# EAGLE library part ATMEGA32U4-AU (library SamacSys_Parts)
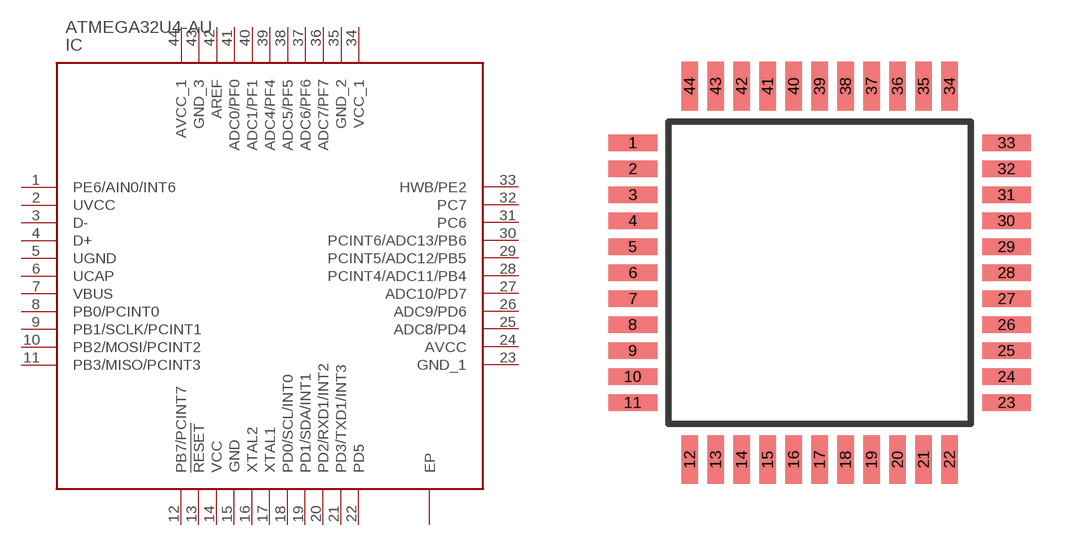
[diagram p16: symbol with the pads of TQFP-44; footprint TQFP-44]

Designator prefix IC

## ATMEGA32U4-AU  [TQFP-44]
1  PE6/AIN0/INT6
2  UVCC  pwr
3  D-
4  D+
5  UGND  pwr
6  UCAP
7  VBUS  pwr
8  PB0/PCINT0
9  PB1/SCLK/PCINT1
10  PB2/MOSI/PCINT2
11  PB3/MISO/PCINT3
12  PB7/PCINT7
13  !RESET
14  VCC  pwr
15  GND  pwr
16  XTAL2
17  XTAL1
18  PD0/SCL/INT0
19  PD1/SDA/INT1
20  PD2/RXD1/INT2
21  PD3/TXD1/INT3
22  PD5
23  GND_1  pwr
24  AVCC  pwr
25  ADC8/PD4
26  ADC9/PD6
27  ADC10/PD7
28  PCINT4/ADC11/PB4
29  PCINT5/ADC12/PB5
30  PCINT6/ADC13/PB6
31  PC6
32  PC7  in
33  HWB/PE2
34  VCC_1  pwr
35  GND_2  pwr
36  ADC7/PF7
37  ADC6/PF6
38  ADC5/PF5
39  ADC4/PF4
40  ADC1/PF1
41  ADC0/PF0
42  AREF  in
43  GND_3  pwr
44  AVCC_1  pwr

## Footprint TQFP-44 (pad centres in mm)
TQFP 44A
smd 1.5 x 0.5: 1 -5.75,4; 2 -5.75,3.2; 3 -5.75,2.4; 4 -5.75,1.6; 5 -5.75,0.8; 6 -5.75,0; 7 -5.75,-0.8; 8 -5.75,-1.6; 9 -5.75,-2.4; 10 -5.75,-3.2; 11 -5.75,-4; 23 5.75,-4; 24 5.75,-3.2; 25 5.75,-2.4; 26 5.75,-1.6; 27 5.75,-0.8; 28 5.75,0; 29 5.75,0.8; 30 5.75,1.6; 31 5.75,2.4; 32 5.75,3.2; 33 5.75,4
smd 0.5 x 1.5: 12 -4,-5.75; 13 -3.2,-5.75; 14 -2.4,-5.75; 15 -1.6,-5.75; 16 -0.8,-5.75; 17 0,-5.75; 18 0.8,-5.75; 19 1.6,-5.75; 20 2.4,-5.75; 21 3.2,-5.75; 22 4,-5.75; 34 4,5.75; 35 3.2,5.75; 36 2.4,5.75; 37 1.6,5.75; 38 0.8,5.75; 39 0,5.75; 40 -0.8,5.75; 41 -1.6,5.75; 42 -2.4,5.75; 43 -3.2,5.75; 44 -4,5.75